# Altium integrated library TI_Logic_Little_Logic.IntLib: 1164 symbols (part 4 of 35)
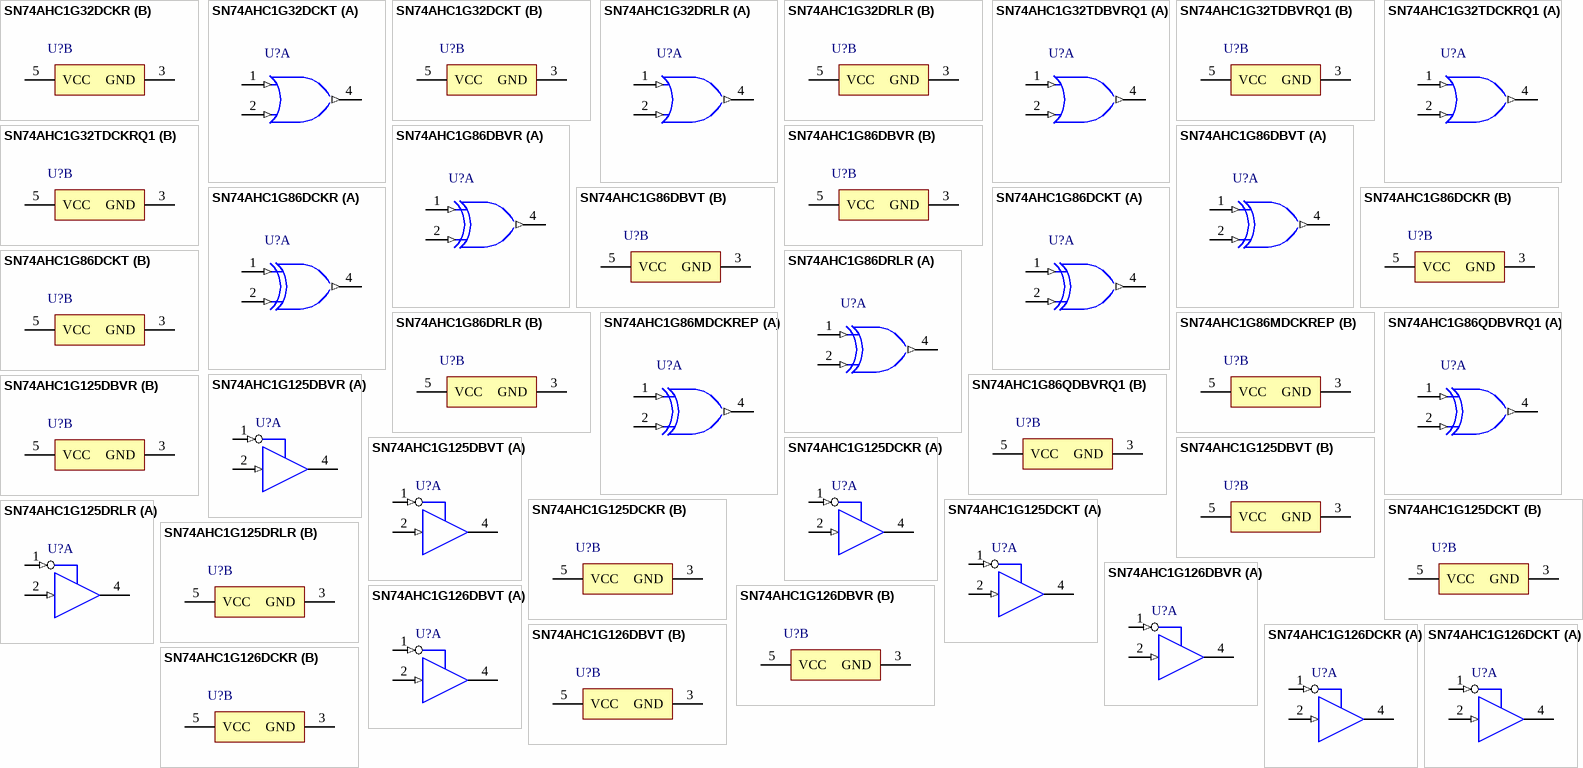
[diagram p63: symbols SN74AHC1G32DCKR to SN74AHC1G126DCKT]

## SN74AHC1G126DBVR
designator U?
Single Bus Buffer Gate With 3-State Outputs, DBV0005A, LARGE T&R; Generic Part Number: SN74AHC1G126; Manufacturer: Texas Instruments; PartNumber: SN74AHC1G126DBVR; VCC(Min)(V): 2; VCC(Max)(V): 5.5; Output Type: CMOS; ICC @ Nom Voltage(Max)(mA): 0.01; Bits(#): 1; F @ Nom Voltage(Max)(Mhz): 75; Rating: Catalog; Technology Family: AHC; Voltage(Nom)(V): 3.3,5; Schmitt Trigger: No; Output Drive (IOL/IOH)(Max)(mA): 50/-50; tpd @ Nom Voltage(Max)(ns): 11.5,7.5; Logic: True; Sub-Family: Non-Inverting Buffer/Driver; 3-State Output: Yes; DatasheetVersion: SCLS379K; PackageReference: DBV0005A; Supplier 1: Mouser; Supplier Part Number 1: 595-SN74AHC1G126DBVR; Supplier 2: Digi-Key; Supplier Part Number 2: 296-8746-2-ND; Supplier 3: Digi-Key; Supplier Part Number 3: 296-8746-1-ND; Supplier 4: Digi-Key; Supplier Part Number 4: 296-8746-6-ND; Input Type: CMOS; Operating Temperature Range(C): -40 to 125,-40 to 85; ComponentLink1Description: Manufacturer URL; ComponentLink1URL: http://www.ti.com/; ComponentLink2Description: Datasheet; ComponentLink2URL: http://www.ti.com/lit/ds/symlink/sn74ahc1g126.pdf
footprint DBV0005A_N (SOT23, 5-Leads, Body 3.05x1.75mm, Pitch 0.95mm, IPC Medium Density)
footprint DBV0005A_M (SOT23, 5-Leads, Body 3.05x1.75mm, Pitch 0.95mm, IPC Low Density)
footprint DBV0005A_L (SOT23, 5-Leads, Body 3.05x1.75mm, Pitch 0.95mm, IPC High Density)
part A pins: 1 OE (in), 2 A (in), 4 Y (hiz)
part B pins: 3 GND (power), 5 VCC (power)

## SN74AHC1G126DBVT
designator U?
Single Bus Buffer Gate With 3-State Outputs, DBV0005A, SMALL T&R; Generic Part Number: SN74AHC1G126; Manufacturer: Texas Instruments; PartNumber: SN74AHC1G126DBVT; VCC(Min)(V): 2; VCC(Max)(V): 5.5; Output Type: CMOS; ICC @ Nom Voltage(Max)(mA): 0.01; Bits(#): 1; F @ Nom Voltage(Max)(Mhz): 75; Rating: Catalog; Technology Family: AHC; Voltage(Nom)(V): 3.3,5; Schmitt Trigger: No; Output Drive (IOL/IOH)(Max)(mA): 50/-50; tpd @ Nom Voltage(Max)(ns): 11.5,7.5; Logic: True; Sub-Family: Non-Inverting Buffer/Driver; 3-State Output: Yes; DatasheetVersion: SCLS379K; PackageReference: DBV0005A; Supplier 1: Mouser; Supplier Part Number 1: 595-SN74AHC1G126DBVT; Supplier 2: Digi-Key; Supplier Part Number 2: 296-32230-2-ND; Supplier 3: Digi-Key; Supplier Part Number 3: 296-32230-1-ND; Supplier 4: Digi-Key; Supplier Part Number 4: 296-32230-6-ND; Input Type: CMOS; Operating Temperature Range(C): -40 to 125,-40 to 85; ComponentLink1Description: Manufacturer URL; ComponentLink1URL: http://www.ti.com/; ComponentLink2Description: Datasheet; ComponentLink2URL: http://www.ti.com/lit/ds/symlink/sn74ahc1g126.pdf
footprint DBV0005A_N (SOT23, 5-Leads, Body 3.05x1.75mm, Pitch 0.95mm, IPC Medium Density)
footprint DBV0005A_M (SOT23, 5-Leads, Body 3.05x1.75mm, Pitch 0.95mm, IPC Low Density)
footprint DBV0005A_L (SOT23, 5-Leads, Body 3.05x1.75mm, Pitch 0.95mm, IPC High Density)
part A pins: 1 OE (in), 2 A (in), 4 Y (hiz)
part B pins: 3 GND (power), 5 VCC (power)

## SN74AHC1G126DCKR
designator U?
Single Bus Buffer Gate With 3-State Outputs, DCK0005A, LARGE T&R; Generic Part Number: SN74AHC1G126; Manufacturer: Texas Instruments; PartNumber: SN74AHC1G126DCKR; VCC(Min)(V): 2; VCC(Max)(V): 5.5; Output Type: CMOS; ICC @ Nom Voltage(Max)(mA): 0.01; Bits(#): 1; F @ Nom Voltage(Max)(Mhz): 75; Rating: Catalog; Technology Family: AHC; Voltage(Nom)(V): 3.3,5; Schmitt Trigger: No; Output Drive (IOL/IOH)(Max)(mA): 50/-50; tpd @ Nom Voltage(Max)(ns): 11.5,7.5; Logic: True; Sub-Family: Non-Inverting Buffer/Driver; 3-State Output: Yes; DatasheetVersion: SCLS379K; PackageReference: DCK0005A; Supplier 1: Mouser; Supplier Part Number 1: 595-SN74AHC1G126DCKR; Supplier 2: Digi-Key; Supplier Part Number 2: 296-8747-2-ND; Supplier 3: Digi-Key; Supplier Part Number 3: 296-8747-1-ND; Supplier 4: Digi-Key; Supplier Part Number 4: 296-8747-6-ND; Input Type: CMOS; Operating Temperature Range(C): -40 to 125,-40 to 85; ComponentLink1Description: Manufacturer URL; ComponentLink1URL: http://www.ti.com/; ComponentLink2Description: Datasheet; ComponentLink2URL: http://www.ti.com/lit/ds/symlink/sn74ahc1g126.pdf
footprint DCK0005A_N (SOT23, 5-Leads, Body 2.15x1.4mm, Pitch 0.65mm, IPC Medium Density)
footprint DCK0005A_M (SOT23, 5-Leads, Body 2.15x1.4mm, Pitch 0.65mm, IPC Low Density)
footprint DCK0005A_L (SOT23, 5-Leads, Body 2.15x1.4mm, Pitch 0.65mm, IPC High Density)
part A pins: 1 OE (in), 2 A (in), 4 Y (hiz)
part B pins: 3 GND (power), 5 VCC (power)

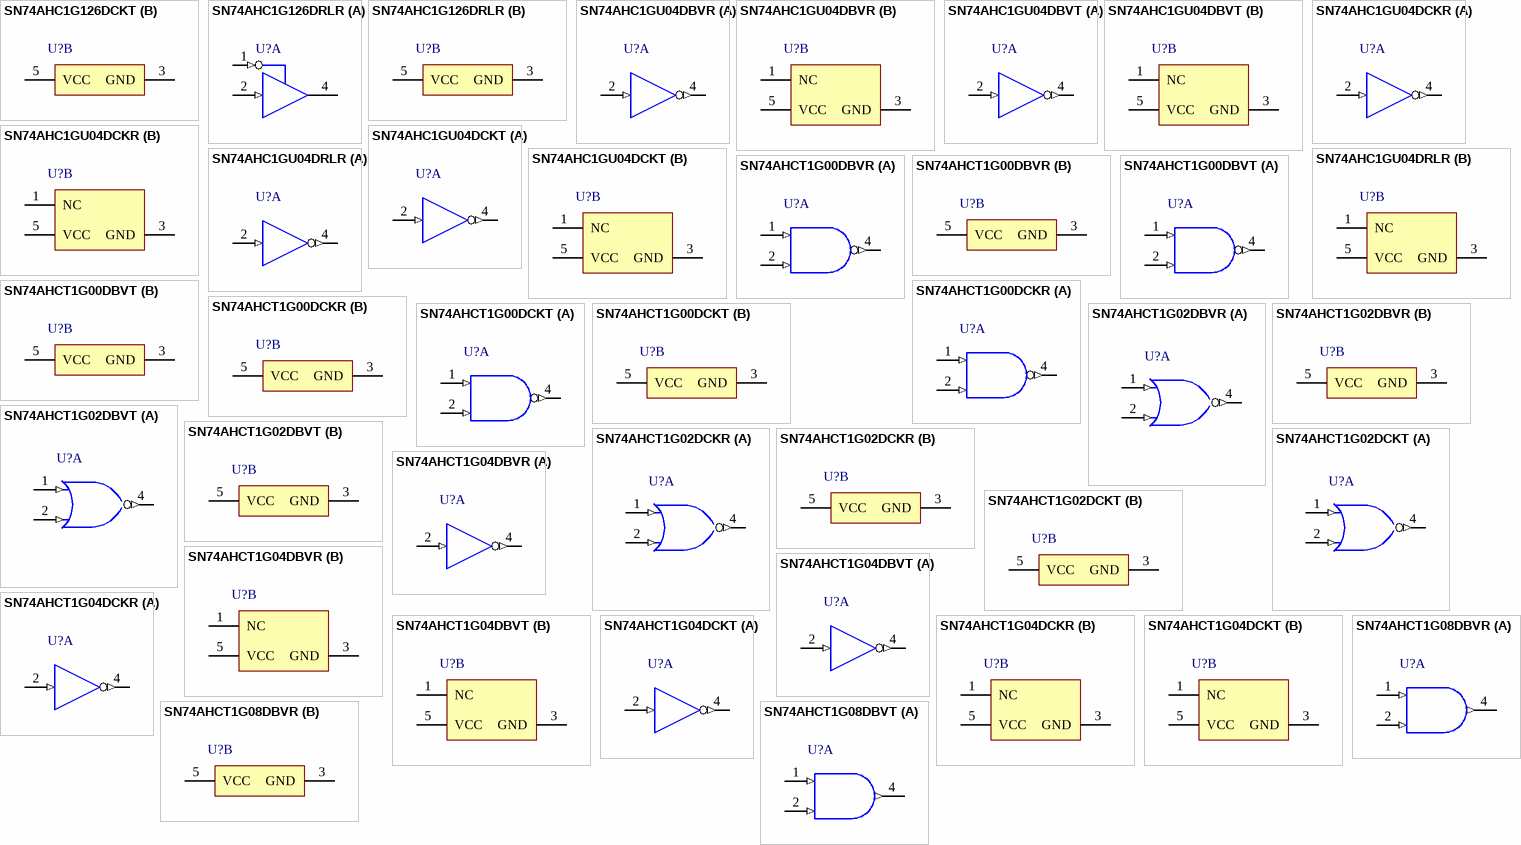
[diagram p5: symbols SN74AHC1G126DCKT to SN74AHCT1G08DBVT]

## SN74AHC1G126DCKT
designator U?
Single Bus Buffer Gate With 3-State Outputs, DCK0005A, SMALL T&R; Generic Part Number: SN74AHC1G126; Manufacturer: Texas Instruments; PartNumber: SN74AHC1G126DCKT; VCC(Min)(V): 2; VCC(Max)(V): 5.5; Output Type: CMOS; ICC @ Nom Voltage(Max)(mA): 0.01; Bits(#): 1; F @ Nom Voltage(Max)(Mhz): 75; Rating: Catalog; Technology Family: AHC; Voltage(Nom)(V): 3.3,5; Schmitt Trigger: No; Output Drive (IOL/IOH)(Max)(mA): 50/-50; tpd @ Nom Voltage(Max)(ns): 11.5,7.5; Logic: True; Sub-Family: Non-Inverting Buffer/Driver; 3-State Output: Yes; DatasheetVersion: SCLS379K; PackageReference: DCK0005A; Supplier 1: Mouser; Supplier Part Number 1: 595-SN74AHC1G126DCKT; Supplier 2: Digi-Key; Supplier Part Number 2: SN74AHC1G126DCKT-ND; Input Type: CMOS; Operating Temperature Range(C): -40 to 125,-40 to 85; ComponentLink1Description: Manufacturer URL; ComponentLink1URL: http://www.ti.com/; ComponentLink2Description: Datasheet; ComponentLink2URL: http://www.ti.com/lit/ds/symlink/sn74ahc1g126.pdf
footprint DCK0005A_N (SOT23, 5-Leads, Body 2.15x1.4mm, Pitch 0.65mm, IPC Medium Density)
footprint DCK0005A_M (SOT23, 5-Leads, Body 2.15x1.4mm, Pitch 0.65mm, IPC Low Density)
footprint DCK0005A_L (SOT23, 5-Leads, Body 2.15x1.4mm, Pitch 0.65mm, IPC High Density)
part A pins: 1 OE (in), 2 A (in), 4 Y (hiz)
part B pins: 3 GND (power), 5 VCC (power)

## SN74AHC1G126DRLR
designator U?
Single Bus Buffer Gate With 3-State Outputs, DRL0005A, LARGE T&R; Generic Part Number: SN74AHC1G126; Manufacturer: Texas Instruments; PartNumber: SN74AHC1G126DRLR; VCC(Min)(V): 2; VCC(Max)(V): 5.5; Output Type: CMOS; ICC @ Nom Voltage(Max)(mA): 0.01; Bits(#): 1; F @ Nom Voltage(Max)(Mhz): 75; Rating: Catalog; Technology Family: AHC; Voltage(Nom)(V): 3.3,5; Schmitt Trigger: No; Output Drive (IOL/IOH)(Max)(mA): 50/-50; tpd @ Nom Voltage(Max)(ns): 11.5,7.5; Logic: True; Sub-Family: Non-Inverting Buffer/Driver; 3-State Output: Yes; DatasheetVersion: SCLS379K; PackageReference: DRL0005A; Supplier 1: Mouser; Supplier Part Number 1: 595-SN74AHC1G126DRLR; Supplier 2: Digi-Key; Supplier Part Number 2: 296-19377-2-ND; Supplier 3: Digi-Key; Supplier Part Number 3: 296-19377-1-ND; Supplier 4: Digi-Key; Supplier Part Number 4: 296-19377-6-ND; Input Type: CMOS; Operating Temperature Range(C): -40 to 125,-40 to 85; ComponentLink1Description: Manufacturer URL; ComponentLink1URL: http://www.ti.com/; ComponentLink2Description: Datasheet; ComponentLink2URL: http://www.ti.com/lit/ds/symlink/sn74ahc1g126.pdf
footprint DRL0005A_N (SOT23, 5-Leads, Body 1.7x1.3mm, Pitch 0.5mm, IPC Medium Density)
footprint DRL0005A_M (SOT23, 5-Leads, Body 1.7x1.3mm, Pitch 0.5mm, IPC Low Density)
footprint DRL0005A_L (SOT23, 5-Leads, Body 1.7x1.3mm, Pitch 0.5mm, IPC High Density)
part A pins: 1 OE (in), 2 A (in), 4 Y (hiz)
part B pins: 3 GND (power), 5 VCC (power)

## SN74AHC1GU04DBVR
designator U?
Single Inverter, DBV0005A, LARGE T&R; Generic Part Number: SN74AHC1GU04; Manufacturer: Texas Instruments; PartNumber: SN74AHC1GU04DBVR; VCC(Min)(V): 2; VCC(Max)(V): 5.5; Output Type: CMOS; ICC @ Nom Voltage(Max)(mA): 0.01; Bits(#): 1; F @ Nom Voltage(Max)(Mhz): 75; Rating: Catalog; Technology Family: AHC; Voltage(Nom)(V): 3.3,5; Schmitt Trigger: No; Output Drive (IOL/IOH)(Max)(mA): 50/-50; tpd @ Nom Voltage(Max)(ns): 10.6,7; Logic: Inverting; Sub-Family: Inverting Buffer/Driver; DatasheetVersion: SCLS343R; PackageReference: DBV0005A; Supplier 1: Mouser; Supplier Part Number 1: 595-SN74AHC1GU04DBVR; Supplier 2: Digi-Key; Supplier Part Number 2: 296-1095-2-ND; Supplier 3: Digi-Key; Supplier Part Number 3: 296-1095-1-ND; Supplier 4: Digi-Key; Supplier Part Number 4: 296-1095-6-ND; Input Type: CMOS; Operating Temperature Range(C): -40 to 125; 3-State Output: No; ComponentLink1Description: Manufacturer URL; ComponentLink1URL: http://www.ti.com/; ComponentLink2Description: Datasheet; ComponentLink2URL: http://www.ti.com/lit/ds/symlink/sn74ahc1gu04.pdf
footprint DBV0005A_N (SOT23, 5-Leads, Body 3.05x1.75mm, Pitch 0.95mm, IPC Medium Density)
footprint DBV0005A_M (SOT23, 5-Leads, Body 3.05x1.75mm, Pitch 0.95mm, IPC Low Density)
footprint DBV0005A_L (SOT23, 5-Leads, Body 3.05x1.75mm, Pitch 0.95mm, IPC High Density)
part A pins: 2 A (in) "Input A", 4 Y (out) "Output Y"
part B pins: 1 NC "Ground", 3 GND (power) "Ground Pin", 5 VCC (power) "Power Pin"

## SN74AHC1GU04DBVT
designator U?
Single Inverter, DBV0005A, SMALL T&R; Generic Part Number: SN74AHC1GU04; Manufacturer: Texas Instruments; PartNumber: SN74AHC1GU04DBVT; VCC(Min)(V): 2; VCC(Max)(V): 5.5; Output Type: CMOS; ICC @ Nom Voltage(Max)(mA): 0.01; Bits(#): 1; F @ Nom Voltage(Max)(Mhz): 75; Rating: Catalog; Technology Family: AHC; Voltage(Nom)(V): 3.3,5; Schmitt Trigger: No; Output Drive (IOL/IOH)(Max)(mA): 50/-50; tpd @ Nom Voltage(Max)(ns): 10.6,7; Logic: Inverting; Sub-Family: Inverting Buffer/Driver; DatasheetVersion: SCLS343R; PackageReference: DBV0005A; Supplier 1: Mouser; Supplier Part Number 1: 595-SN74AHC1GU04DBVT; Supplier 2: Digi-Key; Supplier Part Number 2: 296-32236-2-ND; Supplier 3: Digi-Key; Supplier Part Number 3: 296-32236-1-ND; Supplier 4: Digi-Key; Supplier Part Number 4: 296-32236-6-ND; Input Type: CMOS; Operating Temperature Range(C): -40 to 125; 3-State Output: No; ComponentLink1Description: Manufacturer URL; ComponentLink1URL: http://www.ti.com/; ComponentLink2Description: Datasheet; ComponentLink2URL: http://www.ti.com/lit/ds/symlink/sn74ahc1gu04.pdf
footprint DBV0005A_N (SOT23, 5-Leads, Body 3.05x1.75mm, Pitch 0.95mm, IPC Medium Density)
footprint DBV0005A_M (SOT23, 5-Leads, Body 3.05x1.75mm, Pitch 0.95mm, IPC Low Density)
footprint DBV0005A_L (SOT23, 5-Leads, Body 3.05x1.75mm, Pitch 0.95mm, IPC High Density)
part A pins: 2 A (in) "Input A", 4 Y (out) "Output Y"
part B pins: 1 NC "Ground", 3 GND (power) "Ground Pin", 5 VCC (power) "Power Pin"

## SN74AHC1GU04DCKR
designator U?
Single Inverter, DCK0005A, LARGE T&R; Generic Part Number: SN74AHC1GU04; Manufacturer: Texas Instruments; PartNumber: SN74AHC1GU04DCKR; VCC(Min)(V): 2; VCC(Max)(V): 5.5; Output Type: CMOS; ICC @ Nom Voltage(Max)(mA): 0.01; Bits(#): 1; F @ Nom Voltage(Max)(Mhz): 75; Rating: Catalog; Technology Family: AHC; Voltage(Nom)(V): 3.3,5; Schmitt Trigger: No; Output Drive (IOL/IOH)(Max)(mA): 50/-50; tpd @ Nom Voltage(Max)(ns): 10.6,7; Logic: Inverting; Sub-Family: Inverting Buffer/Driver; DatasheetVersion: SCLS343R; PackageReference: DCK0005A; Supplier 1: Mouser; Supplier Part Number 1: 595-SN74AHC1GU04DCKR; Supplier 2: Digi-Key; Supplier Part Number 2: 296-8751-2-ND; Supplier 3: Digi-Key; Supplier Part Number 3: 296-8751-1-ND; Supplier 4: Digi-Key; Supplier Part Number 4: 296-8751-6-ND; Input Type: CMOS; Operating Temperature Range(C): -40 to 125; 3-State Output: No; ComponentLink1Description: Manufacturer URL; ComponentLink1URL: http://www.ti.com/; ComponentLink2Description: Datasheet; ComponentLink2URL: http://www.ti.com/lit/ds/symlink/sn74ahc1gu04.pdf
footprint DCK0005A_N (SOT23, 5-Leads, Body 2.15x1.4mm, Pitch 0.65mm, IPC Medium Density)
footprint DCK0005A_M (SOT23, 5-Leads, Body 2.15x1.4mm, Pitch 0.65mm, IPC Low Density)
footprint DCK0005A_L (SOT23, 5-Leads, Body 2.15x1.4mm, Pitch 0.65mm, IPC High Density)
part A pins: 2 A (in), 4 Y (out)
part B pins: 1 NC, 3 GND (power), 5 VCC (power)

## SN74AHC1GU04DCKT
designator U?
Single Inverter, DCK0005A, SMALL T&R; Generic Part Number: SN74AHC1GU04; Manufacturer: Texas Instruments; PartNumber: SN74AHC1GU04DCKT; VCC(Min)(V): 2; VCC(Max)(V): 5.5; Output Type: CMOS; ICC @ Nom Voltage(Max)(mA): 0.01; Bits(#): 1; F @ Nom Voltage(Max)(Mhz): 75; Rating: Catalog; Technology Family: AHC; Voltage(Nom)(V): 3.3,5; Schmitt Trigger: No; Output Drive (IOL/IOH)(Max)(mA): 50/-50; tpd @ Nom Voltage(Max)(ns): 10.6,7; Logic: Inverting; Sub-Family: Inverting Buffer/Driver; DatasheetVersion: SCLS343R; PackageReference: DCK0005A; Supplier 1: Mouser; Supplier Part Number 1: 595-SN74AHC1GU04DCKT; Supplier 2: Digi-Key; Supplier Part Number 2: 296-32237-2-ND; Supplier 3: Digi-Key; Supplier Part Number 3: 296-32237-1-ND; Supplier 4: Digi-Key; Supplier Part Number 4: 296-32237-6-ND; Input Type: CMOS; Operating Temperature Range(C): -40 to 125; 3-State Output: No; ComponentLink1Description: Manufacturer URL; ComponentLink1URL: http://www.ti.com/; ComponentLink2Description: Datasheet; ComponentLink2URL: http://www.ti.com/lit/ds/symlink/sn74ahc1gu04.pdf
footprint DCK0005A_N (SOT23, 5-Leads, Body 2.15x1.4mm, Pitch 0.65mm, IPC Medium Density)
footprint DCK0005A_M (SOT23, 5-Leads, Body 2.15x1.4mm, Pitch 0.65mm, IPC Low Density)
footprint DCK0005A_L (SOT23, 5-Leads, Body 2.15x1.4mm, Pitch 0.65mm, IPC High Density)
part A pins: 2 A (in), 4 Y (out)
part B pins: 1 NC, 3 GND (power), 5 VCC (power)

## SN74AHC1GU04DRLR
designator U?
Single Inverter, DRL0005A, LARGE T&R; Generic Part Number: SN74AHC1GU04; Manufacturer: Texas Instruments; PartNumber: SN74AHC1GU04DRLR; VCC(Min)(V): 2; VCC(Max)(V): 5.5; Output Type: CMOS; ICC @ Nom Voltage(Max)(mA): 0.01; Bits(#): 1; F @ Nom Voltage(Max)(Mhz): 75; Rating: Catalog; Technology Family: AHC; Voltage(Nom)(V): 3.3,5; Schmitt Trigger: No; Output Drive (IOL/IOH)(Max)(mA): 50/-50; tpd @ Nom Voltage(Max)(ns): 10.6,7; Logic: Inverting; Sub-Family: Inverting Buffer/Driver; DatasheetVersion: SCLS343R; PackageReference: DRL0005A; Supplier 1: Mouser; Supplier Part Number 1: 595-SN74AHC1GU04DRLR; Supplier 2: Digi-Key; Supplier Part Number 2: 296-23234-2-ND; Supplier 3: Digi-Key; Supplier Part Number 3: 296-23234-1-ND; Supplier 4: Digi-Key; Supplier Part Number 4: 296-23234-6-ND; Input Type: CMOS; Operating Temperature Range(C): -40 to 125; 3-State Output: No; ComponentLink1Description: Manufacturer URL; ComponentLink1URL: http://www.ti.com/; ComponentLink2Description: Datasheet; ComponentLink2URL: http://www.ti.com/lit/ds/symlink/sn74ahc1gu04.pdf
footprint DRL0005A_N (SOT23, 5-Leads, Body 1.7x1.3mm, Pitch 0.5mm, IPC Medium Density)
footprint DRL0005A_M (SOT23, 5-Leads, Body 1.7x1.3mm, Pitch 0.5mm, IPC Low Density)
footprint DRL0005A_L (SOT23, 5-Leads, Body 1.7x1.3mm, Pitch 0.5mm, IPC High Density)
part A pins: 2 A (in) "Input A", 4 Y (out) "Output Y"
part B pins: 1 NC "Ground", 3 GND (power) "Ground Pin", 5 VCC (power) "Power Pin"

## SN74AHCT1G00DBVR
designator U?
Single 2-Input Positive-NAND Gate, DBV0005A, LARGE T&R; Generic Part Number: SN74AHCT1G00; Manufacturer: Texas Instruments; PartNumber: SN74AHCT1G00DBVR; VCC(Min)(V): 2; VCC(Max)(V): 5.5; Output Type: CMOS; ICC @ Nom Voltage(Max)(mA): 0.01; Bits(#): 1; F @ Nom Voltage(Max)(Mhz): 75; Rating: Catalog; Technology Family: AHCT; Voltage(Nom)(V): 3.3,5; Schmitt Trigger: No; Output Drive (IOL/IOH)(Max)(mA): 50/-50; tpd @ Nom Voltage(Max)(ns): 11.4,7.5; Logic: True; Gate Type: NAND; DatasheetVersion: SCLS316N; PackageReference: DBV0005A; Supplier 1: Mouser; Supplier Part Number 1: 595-SN74AHCT1G00DBVR; Supplier 2: Digi-Key; Supplier Part Number 2: 296-1111-2-ND; Supplier 3: Digi-Key; Supplier Part Number 3: 296-1111-1-ND; Supplier 4: Digi-Key; Supplier Part Number 4: 296-1111-6-ND; Input Type: CMOS; Operating Temperature Range(C): -40 to 125; Sub-Family: NAND Gate; 3-State Output: No; ComponentLink1Description: Manufacturer URL; ComponentLink1URL: http://www.ti.com/; ComponentLink2Description: Datasheet; ComponentLink2URL: http://www.ti.com/lit/ds/symlink/sn74ahct1g00.pdf
footprint DBV0005A_N (SOT23, 5-Leads, Body 3.05x1.75mm, Pitch 0.95mm, IPC Medium Density)
footprint DBV0005A_M (SOT23, 5-Leads, Body 3.05x1.75mm, Pitch 0.95mm, IPC Low Density)
footprint DBV0005A_L (SOT23, 5-Leads, Body 3.05x1.75mm, Pitch 0.95mm, IPC High Density)
part A pins: 1 A (in) "Input A", 2 B (in) "Input B", 4 Y (out) "Output Y"
part B pins: 3 GND (power) "Ground Pin", 5 VCC (power) "Power Pin"

## SN74AHCT1G00DBVT
designator U?
Single 2-Input Positive-NAND Gate, DBV0005A, SMALL T&R; Generic Part Number: SN74AHCT1G00; Manufacturer: Texas Instruments; PartNumber: SN74AHCT1G00DBVT; VCC(Min)(V): 2; VCC(Max)(V): 5.5; Output Type: CMOS; ICC @ Nom Voltage(Max)(mA): 0.01; Bits(#): 1; F @ Nom Voltage(Max)(Mhz): 75; Rating: Catalog; Technology Family: AHCT; Voltage(Nom)(V): 3.3,5; Schmitt Trigger: No; Output Drive (IOL/IOH)(Max)(mA): 50/-50; tpd @ Nom Voltage(Max)(ns): 11.4,7.5; Logic: True; Gate Type: NAND; DatasheetVersion: SCLS316N; PackageReference: DBV0005A; Supplier 1: Mouser; Supplier Part Number 1: 595-SN74AHCT1G00DBVT; Supplier 2: Digi-Key; Supplier Part Number 2: 296-41487-2-ND; Supplier 3: Digi-Key; Supplier Part Number 3: 296-41487-1-ND; Supplier 4: Digi-Key; Supplier Part Number 4: 296-41487-6-ND; Input Type: CMOS; Operating Temperature Range(C): -40 to 125; Sub-Family: NAND Gate; 3-State Output: No; ComponentLink1Description: Manufacturer URL; ComponentLink1URL: http://www.ti.com/; ComponentLink2Description: Datasheet; ComponentLink2URL: http://www.ti.com/lit/ds/symlink/sn74ahct1g00.pdf
footprint DBV0005A_N (SOT23, 5-Leads, Body 3.05x1.75mm, Pitch 0.95mm, IPC Medium Density)
footprint DBV0005A_M (SOT23, 5-Leads, Body 3.05x1.75mm, Pitch 0.95mm, IPC Low Density)
footprint DBV0005A_L (SOT23, 5-Leads, Body 3.05x1.75mm, Pitch 0.95mm, IPC High Density)
part A pins: 1 A (in) "Input A", 2 B (in) "Input B", 4 Y (out) "Output Y"
part B pins: 3 GND (power) "Ground Pin", 5 VCC (power) "Power Pin"

## SN74AHCT1G00DCKR
designator U?
Single 2-Input Positive-NAND Gate, DCK0005A, LARGE T&R; Generic Part Number: SN74AHCT1G00; Manufacturer: Texas Instruments; PartNumber: SN74AHCT1G00DCKR; VCC(Min)(V): 2; VCC(Max)(V): 5.5; Output Type: CMOS; ICC @ Nom Voltage(Max)(mA): 0.01; Bits(#): 1; F @ Nom Voltage(Max)(Mhz): 75; Rating: Catalog; Technology Family: AHCT; Voltage(Nom)(V): 3.3,5; Schmitt Trigger: No; Output Drive (IOL/IOH)(Max)(mA): 50/-50; tpd @ Nom Voltage(Max)(ns): 11.4,7.5; Logic: True; Gate Type: NAND; DatasheetVersion: SCLS316N; PackageReference: DCK0005A; Supplier 1: Mouser; Supplier Part Number 1: 595-SN74AHCT1G00DCKR; Supplier 2: Digi-Key; Supplier Part Number 2: 296-4703-2-ND; Supplier 3: Digi-Key; Supplier Part Number 3: 296-4703-1-ND; Supplier 4: Digi-Key; Supplier Part Number 4: 296-4703-6-ND; Input Type: CMOS; Operating Temperature Range(C): -40 to 125; Sub-Family: NAND Gate; 3-State Output: No; ComponentLink1Description: Manufacturer URL; ComponentLink1URL: http://www.ti.com/; ComponentLink2Description: Datasheet; ComponentLink2URL: http://www.ti.com/lit/ds/symlink/sn74ahct1g00.pdf
footprint DCK0005A_N (SOT23, 5-Leads, Body 2.15x1.4mm, Pitch 0.65mm, IPC Medium Density)
footprint DCK0005A_M (SOT23, 5-Leads, Body 2.15x1.4mm, Pitch 0.65mm, IPC Low Density)
footprint DCK0005A_L (SOT23, 5-Leads, Body 2.15x1.4mm, Pitch 0.65mm, IPC High Density)
part A pins: 1 A (in) "Input A", 2 B (in) "Input B", 4 Y (out) "Output Y"
part B pins: 3 GND (power) "Ground Pin", 5 VCC (power) "Power Pin"

## SN74AHCT1G00DCKT
designator U?
Single 2-Input Positive-NAND Gate, DCK0005A, SMALL T&R; Generic Part Number: SN74AHCT1G00; Manufacturer: Texas Instruments; PartNumber: SN74AHCT1G00DCKT; VCC(Min)(V): 2; VCC(Max)(V): 5.5; Output Type: CMOS; ICC @ Nom Voltage(Max)(mA): 0.01; Bits(#): 1; F @ Nom Voltage(Max)(Mhz): 75; Rating: Catalog; Technology Family: AHCT; Voltage(Nom)(V): 3.3,5; Schmitt Trigger: No; Output Drive (IOL/IOH)(Max)(mA): 50/-50; tpd @ Nom Voltage(Max)(ns): 11.4,7.5; Logic: True; Gate Type: NAND; DatasheetVersion: SCLS316N; PackageReference: DCK0005A; Supplier 1: Mouser; Supplier Part Number 1: 595-SN74AHCT1G00DCKT; Supplier 2: Digi-Key; Supplier Part Number 2: SN74AHCT1G00DCKT-ND; Input Type: CMOS; Operating Temperature Range(C): -40 to 125; Sub-Family: NAND Gate; 3-State Output: No; ComponentLink1Description: Manufacturer URL; ComponentLink1URL: http://www.ti.com/; ComponentLink2Description: Datasheet; ComponentLink2URL: http://www.ti.com/lit/ds/symlink/sn74ahct1g00.pdf
footprint DCK0005A_N (SOT23, 5-Leads, Body 2.15x1.4mm, Pitch 0.65mm, IPC Medium Density)
footprint DCK0005A_M (SOT23, 5-Leads, Body 2.15x1.4mm, Pitch 0.65mm, IPC Low Density)
footprint DCK0005A_L (SOT23, 5-Leads, Body 2.15x1.4mm, Pitch 0.65mm, IPC High Density)
part A pins: 1 A (in) "Input A", 2 B (in) "Input B", 4 Y (out) "Output Y"
part B pins: 3 GND (power) "Ground Pin", 5 VCC (power) "Power Pin"

## SN74AHCT1G02DBVR
designator U?
Single 2-Input Positive-NOR Gate, DBV0005A, LARGE T&R; Generic Part Number: SN74AHCT1G02; Manufacturer: Texas Instruments; PartNumber: SN74AHCT1G02DBVR; VCC(Min)(V): 2; VCC(Max)(V): 5.5; Output Type: CMOS; ICC @ Nom Voltage(Max)(mA): 0.01; Bits(#): 1; F @ Nom Voltage(Max)(Mhz): 75; Rating: Catalog; Technology Family: AHCT; Voltage(Nom)(V): 5; Schmitt Trigger: No; Output Drive (IOL/IOH)(Max)(mA): 8/-8; tpd @ Nom Voltage(Max)(ns): 6.5; Logic: True; Gate Type: NOR; DatasheetVersion: SCLS341K; PackageReference: DBV0005A; Supplier 1: Mouser; Supplier Part Number 1: 595-SN74AHCT1G02DBVR; Supplier 2: Digi-Key; Supplier Part Number 2: 296-4704-2-ND; Supplier 3: Digi-Key; Supplier Part Number 3: 296-4704-1-ND; Supplier 4: Digi-Key; Supplier Part Number 4: 296-4704-6-ND; Input Type: CMOS; Operating Temperature Range(C): -40 to 85; Sub-Family: NOR Gate; 3-State Output: No; ComponentLink1Description: Manufacturer URL; ComponentLink1URL: http://www.ti.com/; ComponentLink2Description: Datasheet; ComponentLink2URL: http://www.ti.com/lit/ds/symlink/sn74ahct1g02.pdf
footprint DBV0005A_N (SOT23, 5-Leads, Body 3.05x1.75mm, Pitch 0.95mm, IPC Medium Density)
footprint DBV0005A_M (SOT23, 5-Leads, Body 3.05x1.75mm, Pitch 0.95mm, IPC Low Density)
footprint DBV0005A_L (SOT23, 5-Leads, Body 3.05x1.75mm, Pitch 0.95mm, IPC High Density)
part A pins: 1 A (in) "Input A", 2 B (in) "Input B", 4 Y (out) "Output Y"
part B pins: 3 GND (power) "Ground Pin", 5 VCC (power) "Power Pin"

## SN74AHCT1G02DBVT
designator U?
Single 2-Input Positive-NOR Gate, DBV0005A, SMALL T&R; Generic Part Number: SN74AHCT1G02; Manufacturer: Texas Instruments; PartNumber: SN74AHCT1G02DBVT; VCC(Min)(V): 2; VCC(Max)(V): 5.5; Output Type: CMOS; ICC @ Nom Voltage(Max)(mA): 0.01; Bits(#): 1; F @ Nom Voltage(Max)(Mhz): 75; Rating: Catalog; Technology Family: AHCT; Voltage(Nom)(V): 5; Schmitt Trigger: No; Output Drive (IOL/IOH)(Max)(mA): 8/-8; tpd @ Nom Voltage(Max)(ns): 6.5; Logic: True; Gate Type: NOR; DatasheetVersion: SCLS341K; PackageReference: DBV0005A; Supplier 1: Mouser; Supplier Part Number 1: 595-SN74AHCT1G02DBVT; Supplier 2: Digi-Key; Supplier Part Number 2: 296-32239-2-ND; Supplier 3: Digi-Key; Supplier Part Number 3: 296-32239-1-ND; Supplier 4: Digi-Key; Supplier Part Number 4: 296-32239-6-ND; Input Type: CMOS; Operating Temperature Range(C): -40 to 85; Sub-Family: NOR Gate; 3-State Output: No; ComponentLink1Description: Manufacturer URL; ComponentLink1URL: http://www.ti.com/; ComponentLink2Description: Datasheet; ComponentLink2URL: http://www.ti.com/lit/ds/symlink/sn74ahct1g02.pdf
footprint DBV0005A_N (SOT23, 5-Leads, Body 3.05x1.75mm, Pitch 0.95mm, IPC Medium Density)
footprint DBV0005A_M (SOT23, 5-Leads, Body 3.05x1.75mm, Pitch 0.95mm, IPC Low Density)
footprint DBV0005A_L (SOT23, 5-Leads, Body 3.05x1.75mm, Pitch 0.95mm, IPC High Density)
part A pins: 1 A (in) "Input A", 2 B (in) "Input B", 4 Y (out) "Output Y"
part B pins: 3 GND (power) "Ground Pin", 5 VCC (power) "Power Pin"

## SN74AHCT1G02DCKR
designator U?
Single 2-Input Positive-NOR Gate, DCK0005A, LARGE T&R; Generic Part Number: SN74AHCT1G02; Manufacturer: Texas Instruments; PartNumber: SN74AHCT1G02DCKR; VCC(Min)(V): 2; VCC(Max)(V): 5.5; Output Type: CMOS; ICC @ Nom Voltage(Max)(mA): 0.01; Bits(#): 1; F @ Nom Voltage(Max)(Mhz): 75; Rating: Catalog; Technology Family: AHCT; Voltage(Nom)(V): 5; Schmitt Trigger: No; Output Drive (IOL/IOH)(Max)(mA): 8/-8; tpd @ Nom Voltage(Max)(ns): 6.5; Logic: True; Gate Type: NOR; DatasheetVersion: SCLS341K; PackageReference: DCK0005A; Supplier 1: Mouser; Supplier Part Number 1: 595-SN74AHCT1G02DCKR; Supplier 2: Digi-Key; Supplier Part Number 2: 296-4705-2-ND; Supplier 3: Digi-Key; Supplier Part Number 3: 296-4705-1-ND; Supplier 4: Digi-Key; Supplier Part Number 4: 296-4705-6-ND; Input Type: CMOS; Operating Temperature Range(C): -40 to 85; Sub-Family: NOR Gate; 3-State Output: No; ComponentLink1Description: Manufacturer URL; ComponentLink1URL: http://www.ti.com/; ComponentLink2Description: Datasheet; ComponentLink2URL: http://www.ti.com/lit/ds/symlink/sn74ahct1g02.pdf
footprint DCK0005A_N (SOT23, 5-Leads, Body 2.15x1.4mm, Pitch 0.65mm, IPC Medium Density)
footprint DCK0005A_M (SOT23, 5-Leads, Body 2.15x1.4mm, Pitch 0.65mm, IPC Low Density)
footprint DCK0005A_L (SOT23, 5-Leads, Body 2.15x1.4mm, Pitch 0.65mm, IPC High Density)
part A pins: 1 A (in) "Input A", 2 B (in) "Input B", 4 Y (out) "Output Y"
part B pins: 3 GND (power) "Ground Pin", 5 VCC (power) "Power Pin"

## SN74AHCT1G02DCKT
designator U?
Single 2-Input Positive-NOR Gate, DCK0005A, SMALL T&R; Generic Part Number: SN74AHCT1G02; Manufacturer: Texas Instruments; PartNumber: SN74AHCT1G02DCKT; VCC(Min)(V): 2; VCC(Max)(V): 5.5; Output Type: CMOS; ICC @ Nom Voltage(Max)(mA): 0.01; Bits(#): 1; F @ Nom Voltage(Max)(Mhz): 75; Rating: Catalog; Technology Family: AHCT; Voltage(Nom)(V): 5; Schmitt Trigger: No; Output Drive (IOL/IOH)(Max)(mA): 8/-8; tpd @ Nom Voltage(Max)(ns): 6.5; Logic: True; Gate Type: NOR; DatasheetVersion: SCLS341K; PackageReference: DCK0005A; Supplier 1: Mouser; Supplier Part Number 1: 595-SN74AHCT1G02DCKT; Supplier 2: Digi-Key; Supplier Part Number 2: 296-32240-2-ND; Supplier 3: Digi-Key; Supplier Part Number 3: 296-32240-1-ND; Supplier 4: Digi-Key; Supplier Part Number 4: 296-32240-6-ND; Input Type: CMOS; Operating Temperature Range(C): -40 to 85; Sub-Family: NOR Gate; 3-State Output: No; ComponentLink1Description: Manufacturer URL; ComponentLink1URL: http://www.ti.com/; ComponentLink2Description: Datasheet; ComponentLink2URL: http://www.ti.com/lit/ds/symlink/sn74ahct1g02.pdf
footprint DCK0005A_N (SOT23, 5-Leads, Body 2.15x1.4mm, Pitch 0.65mm, IPC Medium Density)
footprint DCK0005A_M (SOT23, 5-Leads, Body 2.15x1.4mm, Pitch 0.65mm, IPC Low Density)
footprint DCK0005A_L (SOT23, 5-Leads, Body 2.15x1.4mm, Pitch 0.65mm, IPC High Density)
part A pins: 1 A (in) "Input A", 2 B (in) "Input B", 4 Y (out) "Output Y"
part B pins: 3 GND (power) "Ground Pin", 5 VCC (power) "Power Pin"

## SN74AHCT1G04DBVR
designator U?
Single Inverter Gate, DBV0005A, LARGE T&R; Generic Part Number: SN74AHCT1G04; Manufacturer: Texas Instruments; PartNumber: SN74AHCT1G04DBVR; VCC(Min)(V): 2; VCC(Max)(V): 5.5; Output Type: CMOS; ICC @ Nom Voltage(Max)(mA): 0.01; Bits(#): 1; F @ Nom Voltage(Max)(Mhz): 75; Rating: Catalog; Technology Family: AHCT; Voltage(Nom)(V): 5; Schmitt Trigger: No; Output Drive (IOL/IOH)(Max)(mA): 8/-8; tpd @ Nom Voltage(Max)(ns): 7.5; Logic: Inverting; Sub-Family: Inverting Buffer/Driver; DatasheetVersion: SCLS319P; PackageReference: DBV0005A; Supplier 1: Mouser; Supplier Part Number 1: 595-SN74AHCT1G04DBVR; Supplier 2: Digi-Key; Supplier Part Number 2: 296-1112-2-ND; Supplier 3: Digi-Key; Supplier Part Number 3: 296-1112-1-ND; Supplier 4: Digi-Key; Supplier Part Number 4: 296-1112-6-ND; Input Type: CMOS; Operating Temperature Range(C): -40 to 125; 3-State Output: No; ComponentLink1Description: Manufacturer URL; ComponentLink1URL: http://www.ti.com/; ComponentLink2Description: Datasheet; ComponentLink2URL: http://www.ti.com/lit/ds/symlink/sn74ahct1g04.pdf
footprint DBV0005A_N (SOT23, 5-Leads, Body 3.05x1.75mm, Pitch 0.95mm, IPC Medium Density)
footprint DBV0005A_M (SOT23, 5-Leads, Body 3.05x1.75mm, Pitch 0.95mm, IPC Low Density)
footprint DBV0005A_L (SOT23, 5-Leads, Body 3.05x1.75mm, Pitch 0.95mm, IPC High Density)
part A pins: 2 A (in) "Input A", 4 Y (out) "Output Y"
part B pins: 1 NC "Ground", 3 GND (power) "Ground Pin", 5 VCC (power) "Power Pin"

## SN74AHCT1G04DBVT
designator U?
Single Inverter Gate, DBV0005A, SMALL T&R; Generic Part Number: SN74AHCT1G04; Manufacturer: Texas Instruments; PartNumber: SN74AHCT1G04DBVT; VCC(Min)(V): 2; VCC(Max)(V): 5.5; Output Type: CMOS; ICC @ Nom Voltage(Max)(mA): 0.01; Bits(#): 1; F @ Nom Voltage(Max)(Mhz): 75; Rating: Catalog; Technology Family: AHCT; Voltage(Nom)(V): 5; Schmitt Trigger: No; Output Drive (IOL/IOH)(Max)(mA): 8/-8; tpd @ Nom Voltage(Max)(ns): 7.5; Logic: Inverting; Sub-Family: Inverting Buffer/Driver; DatasheetVersion: SCLS319P; PackageReference: DBV0005A; Supplier 1: Mouser; Supplier Part Number 1: 595-SN74AHCT1G04DBVT; Supplier 2: Digi-Key; Supplier Part Number 2: 296-26418-2-ND; Supplier 3: Digi-Key; Supplier Part Number 3: 296-26418-1-ND; Supplier 4: Digi-Key; Supplier Part Number 4: 296-26418-6-ND; Input Type: CMOS; Operating Temperature Range(C): -40 to 125; 3-State Output: No; ComponentLink1Description: Manufacturer URL; ComponentLink1URL: http://www.ti.com/; ComponentLink2Description: Datasheet; ComponentLink2URL: http://www.ti.com/lit/ds/symlink/sn74ahct1g04.pdf
footprint DBV0005A_N (SOT23, 5-Leads, Body 3.05x1.75mm, Pitch 0.95mm, IPC Medium Density)
footprint DBV0005A_M (SOT23, 5-Leads, Body 3.05x1.75mm, Pitch 0.95mm, IPC Low Density)
footprint DBV0005A_L (SOT23, 5-Leads, Body 3.05x1.75mm, Pitch 0.95mm, IPC High Density)
part A pins: 2 A (in) "Input A", 4 Y (out) "Output Y"
part B pins: 1 NC "Ground", 3 GND (power) "Ground Pin", 5 VCC (power) "Power Pin"

## SN74AHCT1G04DCKR
designator U?
Single Inverter Gate, DCK0005A, LARGE T&R; Generic Part Number: SN74AHCT1G04; Manufacturer: Texas Instruments; PartNumber: SN74AHCT1G04DCKR; VCC(Min)(V): 2; VCC(Max)(V): 5.5; Output Type: CMOS; ICC @ Nom Voltage(Max)(mA): 0.01; Bits(#): 1; F @ Nom Voltage(Max)(Mhz): 75; Rating: Catalog; Technology Family: AHCT; Voltage(Nom)(V): 5; Schmitt Trigger: No; Output Drive (IOL/IOH)(Max)(mA): 8/-8; tpd @ Nom Voltage(Max)(ns): 7.5; Logic: Inverting; Sub-Family: Inverting Buffer/Driver; DatasheetVersion: SCLS319P; PackageReference: DCK0005A; Supplier 1: Mouser; Supplier Part Number 1: 595-SN74AHCT1G04DCKR; Supplier 2: Digi-Key; Supplier Part Number 2: 296-4706-2-ND; Supplier 3: Digi-Key; Supplier Part Number 3: 296-4706-1-ND; Supplier 4: Digi-Key; Supplier Part Number 4: 296-4706-6-ND; Input Type: CMOS; Operating Temperature Range(C): -40 to 125; 3-State Output: No; ComponentLink1Description: Manufacturer URL; ComponentLink1URL: http://www.ti.com/; ComponentLink2Description: Datasheet; ComponentLink2URL: http://www.ti.com/lit/ds/symlink/sn74ahct1g04.pdf
footprint DCK0005A_N (SOT23, 5-Leads, Body 2.15x1.4mm, Pitch 0.65mm, IPC Medium Density)
footprint DCK0005A_M (SOT23, 5-Leads, Body 2.15x1.4mm, Pitch 0.65mm, IPC Low Density)
footprint DCK0005A_L (SOT23, 5-Leads, Body 2.15x1.4mm, Pitch 0.65mm, IPC High Density)
part A pins: 2 A (in) "Input A", 4 Y (out) "Output Y"
part B pins: 1 NC "Ground", 3 GND (power) "Ground Pin", 5 VCC (power) "Power Pin"

## SN74AHCT1G04DCKT
designator U?
Single Inverter Gate, DCK0005A, SMALL T&R; Generic Part Number: SN74AHCT1G04; Manufacturer: Texas Instruments; PartNumber: SN74AHCT1G04DCKT; VCC(Min)(V): 2; VCC(Max)(V): 5.5; Output Type: CMOS; ICC @ Nom Voltage(Max)(mA): 0.01; Bits(#): 1; F @ Nom Voltage(Max)(Mhz): 75; Rating: Catalog; Technology Family: AHCT; Voltage(Nom)(V): 5; Schmitt Trigger: No; Output Drive (IOL/IOH)(Max)(mA): 8/-8; tpd @ Nom Voltage(Max)(ns): 7.5; Logic: Inverting; Sub-Family: Inverting Buffer/Driver; DatasheetVersion: SCLS319P; PackageReference: DCK0005A; Supplier 1: Mouser; Supplier Part Number 1: 595-SN74AHCT1G04DCKT; Supplier 2: Digi-Key; Supplier Part Number 2: 296-41488-2-ND; Supplier 3: Digi-Key; Supplier Part Number 3: 296-41488-1-ND; Supplier 4: Digi-Key; Supplier Part Number 4: 296-41488-6-ND; Input Type: CMOS; Operating Temperature Range(C): -40 to 125; 3-State Output: No; ComponentLink1Description: Manufacturer URL; ComponentLink1URL: http://www.ti.com/; ComponentLink2Description: Datasheet; ComponentLink2URL: http://www.ti.com/lit/ds/symlink/sn74ahct1g04.pdf
footprint DCK0005A_N (SOT23, 5-Leads, Body 2.15x1.4mm, Pitch 0.65mm, IPC Medium Density)
footprint DCK0005A_M (SOT23, 5-Leads, Body 2.15x1.4mm, Pitch 0.65mm, IPC Low Density)
footprint DCK0005A_L (SOT23, 5-Leads, Body 2.15x1.4mm, Pitch 0.65mm, IPC High Density)
part A pins: 2 A (in) "Input A", 4 Y (out) "Output Y"
part B pins: 1 NC "Ground", 3 GND (power) "Ground Pin", 5 VCC (power) "Power Pin"

## SN74AHCT1G08DBVR
designator U?
Single 2-Input Positive-AND Gate, DBV0005A, LARGE T&R; Generic Part Number: SN74AHCT1G08; Manufacturer: Texas Instruments; PartNumber: SN74AHCT1G08DBVR; VCC(Min)(V): 2; VCC(Max)(V): 5.5; Output Type: CMOS; ICC @ Nom Voltage(Max)(mA): 0.01; Bits(#): 1; F @ Nom Voltage(Max)(Mhz): 75; Rating: Catalog; Technology Family: AHCT; Voltage(Nom)(V): 5; Schmitt Trigger: No; Output Drive (IOL/IOH)(Max)(mA): 8/-8; tpd @ Nom Voltage(Max)(ns): 7.1; Logic: True; Gate Type: AND; DatasheetVersion: SCLS315P; PackageReference: DBV0005A; Supplier 1: Mouser; Supplier Part Number 1: 595-SN74AHCT1G08DBVR; Supplier 2: Digi-Key; Supplier Part Number 2: 296-1113-2-ND; Supplier 3: Digi-Key; Supplier Part Number 3: 296-1113-1-ND; Supplier 4: Digi-Key; Supplier Part Number 4: 296-1113-6-ND; Input Type: CMOS; Operating Temperature Range(C): -40 to 125; Sub-Family: AND Gate; 3-State Output: No; ComponentLink1Description: Manufacturer URL; ComponentLink1URL: http://www.ti.com/; ComponentLink2Description: Datasheet; ComponentLink2URL: http://www.ti.com/lit/ds/symlink/sn74ahct1g08.pdf
footprint DBV0005A_N (SOT23, 5-Leads, Body 3.05x1.75mm, Pitch 0.95mm, IPC Medium Density)
footprint DBV0005A_M (SOT23, 5-Leads, Body 3.05x1.75mm, Pitch 0.95mm, IPC Low Density)
footprint DBV0005A_L (SOT23, 5-Leads, Body 3.05x1.75mm, Pitch 0.95mm, IPC High Density)
part A pins: 1 A (in) "Input A", 2 B (in) "Input B", 4 Y (out) "Output Y"
part B pins: 3 GND (power) "Ground Pin", 5 VCC (power) "Power Pin"

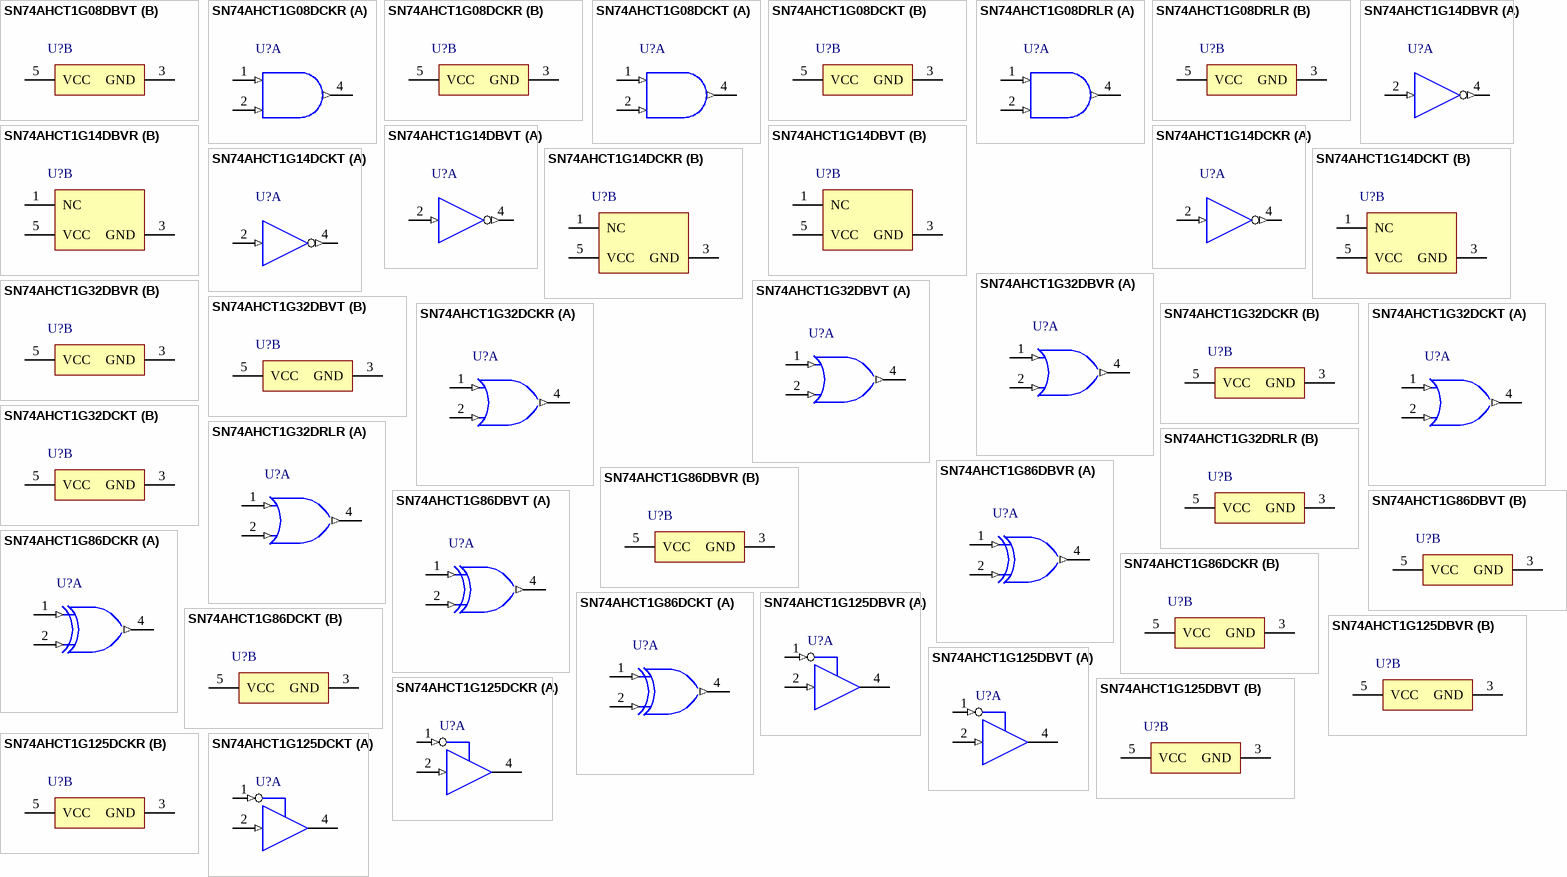
[diagram p6: symbols SN74AHCT1G08DBVT to SN74AHCT1G125DCKT]

## SN74AHCT1G08DBVT
designator U?
Single 2-Input Positive-AND Gate, DBV0005A, SMALL T&R; Generic Part Number: SN74AHCT1G08; Manufacturer: Texas Instruments; PartNumber: SN74AHCT1G08DBVT; VCC(Min)(V): 2; VCC(Max)(V): 5.5; Output Type: CMOS; ICC @ Nom Voltage(Max)(mA): 0.01; Bits(#): 1; F @ Nom Voltage(Max)(Mhz): 75; Rating: Catalog; Technology Family: AHCT; Voltage(Nom)(V): 5; Schmitt Trigger: No; Output Drive (IOL/IOH)(Max)(mA): 8/-8; tpd @ Nom Voltage(Max)(ns): 7.1; Logic: True; Gate Type: AND; DatasheetVersion: SCLS315P; PackageReference: DBV0005A; Supplier 1: Mouser; Supplier Part Number 1: 595-SN74AHCT1G08DBVT; Supplier 2: Digi-Key; Supplier Part Number 2: 296-32241-2-ND; Supplier 3: Digi-Key; Supplier Part Number 3: 296-32241-1-ND; Supplier 4: Digi-Key; Supplier Part Number 4: 296-32241-6-ND; Input Type: CMOS; Operating Temperature Range(C): -40 to 125; Sub-Family: AND Gate; 3-State Output: No; ComponentLink1Description: Manufacturer URL; ComponentLink1URL: http://www.ti.com/; ComponentLink2Description: Datasheet; ComponentLink2URL: http://www.ti.com/lit/ds/symlink/sn74ahct1g08.pdf
footprint DBV0005A_N (SOT23, 5-Leads, Body 3.05x1.75mm, Pitch 0.95mm, IPC Medium Density)
footprint DBV0005A_M (SOT23, 5-Leads, Body 3.05x1.75mm, Pitch 0.95mm, IPC Low Density)
footprint DBV0005A_L (SOT23, 5-Leads, Body 3.05x1.75mm, Pitch 0.95mm, IPC High Density)
part A pins: 1 A (in) "Input A", 2 B (in) "Input B", 4 Y (out) "Output Y"
part B pins: 3 GND (power) "Ground Pin", 5 VCC (power) "Power Pin"

## SN74AHCT1G08DCKR
designator U?
Single 2-Input Positive-AND Gate, DCK0005A, LARGE T&R; Generic Part Number: SN74AHCT1G08; Manufacturer: Texas Instruments; PartNumber: SN74AHCT1G08DCKR; VCC(Min)(V): 2; VCC(Max)(V): 5.5; Output Type: CMOS; ICC @ Nom Voltage(Max)(mA): 0.01; Bits(#): 1; F @ Nom Voltage(Max)(Mhz): 75; Rating: Catalog; Technology Family: AHCT; Voltage(Nom)(V): 5; Schmitt Trigger: No; Output Drive (IOL/IOH)(Max)(mA): 8/-8; tpd @ Nom Voltage(Max)(ns): 7.1; Logic: True; Gate Type: AND; DatasheetVersion: SCLS315P; PackageReference: DCK0005A; Supplier 1: Mouser; Supplier Part Number 1: 595-SN74AHCT1G08DCKR; Supplier 2: Digi-Key; Supplier Part Number 2: 296-4707-2-ND; Supplier 3: Digi-Key; Supplier Part Number 3: 296-4707-1-ND; Supplier 4: Digi-Key; Supplier Part Number 4: 296-4707-6-ND; Input Type: CMOS; Operating Temperature Range(C): -40 to 125; Sub-Family: AND Gate; 3-State Output: No; ComponentLink1Description: Manufacturer URL; ComponentLink1URL: http://www.ti.com/; ComponentLink2Description: Datasheet; ComponentLink2URL: http://www.ti.com/lit/ds/symlink/sn74ahct1g08.pdf
footprint DCK0005A_N (SOT23, 5-Leads, Body 2.15x1.4mm, Pitch 0.65mm, IPC Medium Density)
footprint DCK0005A_M (SOT23, 5-Leads, Body 2.15x1.4mm, Pitch 0.65mm, IPC Low Density)
footprint DCK0005A_L (SOT23, 5-Leads, Body 2.15x1.4mm, Pitch 0.65mm, IPC High Density)
part A pins: 1 A (in) "Input A", 2 B (in) "Input B", 4 Y (out) "Output Y"
part B pins: 3 GND (power) "Ground Pin", 5 VCC (power) "Power Pin"

## SN74AHCT1G08DCKT
designator U?
Single 2-Input Positive-AND Gate, DCK0005A, SMALL T&R; Generic Part Number: SN74AHCT1G08; Manufacturer: Texas Instruments; PartNumber: SN74AHCT1G08DCKT; VCC(Min)(V): 2; VCC(Max)(V): 5.5; Output Type: CMOS; ICC @ Nom Voltage(Max)(mA): 0.01; Bits(#): 1; F @ Nom Voltage(Max)(Mhz): 75; Rating: Catalog; Technology Family: AHCT; Voltage(Nom)(V): 5; Schmitt Trigger: No; Output Drive (IOL/IOH)(Max)(mA): 8/-8; tpd @ Nom Voltage(Max)(ns): 7.1; Logic: True; Gate Type: AND; DatasheetVersion: SCLS315P; PackageReference: DCK0005A; Supplier 1: Mouser; Supplier Part Number 1: 595-SN74AHCT1G08DCKT; Supplier 2: Digi-Key; Supplier Part Number 2: 296-32242-2-ND; Supplier 3: Digi-Key; Supplier Part Number 3: 296-32242-1-ND; Supplier 4: Digi-Key; Supplier Part Number 4: 296-32242-6-ND; Input Type: CMOS; Operating Temperature Range(C): -40 to 125; Sub-Family: AND Gate; 3-State Output: No; ComponentLink1Description: Manufacturer URL; ComponentLink1URL: http://www.ti.com/; ComponentLink2Description: Datasheet; ComponentLink2URL: http://www.ti.com/lit/ds/symlink/sn74ahct1g08.pdf
footprint DCK0005A_N (SOT23, 5-Leads, Body 2.15x1.4mm, Pitch 0.65mm, IPC Medium Density)
footprint DCK0005A_M (SOT23, 5-Leads, Body 2.15x1.4mm, Pitch 0.65mm, IPC Low Density)
footprint DCK0005A_L (SOT23, 5-Leads, Body 2.15x1.4mm, Pitch 0.65mm, IPC High Density)
part A pins: 1 A (in) "Input A", 2 B (in) "Input B", 4 Y (out) "Output Y"
part B pins: 3 GND (power) "Ground Pin", 5 VCC (power) "Power Pin"

## SN74AHCT1G08DRLR
designator U?
Single 2-Input Positive-AND Gate, DRL0005A, LARGE T&R; Generic Part Number: SN74AHCT1G08; Manufacturer: Texas Instruments; PartNumber: SN74AHCT1G08DRLR; VCC(Min)(V): 2; VCC(Max)(V): 5.5; Output Type: CMOS; ICC @ Nom Voltage(Max)(mA): 0.01; Bits(#): 1; F @ Nom Voltage(Max)(Mhz): 75; Rating: Catalog; Technology Family: AHCT; Voltage(Nom)(V): 5; Schmitt Trigger: No; Output Drive (IOL/IOH)(Max)(mA): 8/-8; tpd @ Nom Voltage(Max)(ns): 7.1; Logic: True; Gate Type: AND; DatasheetVersion: SCLS315P; PackageReference: DRL0005A; Supplier 1: Mouser; Supplier Part Number 1: 595-SN74AHCT1G08DRLR; Supplier 2: Digi-Key; Supplier Part Number 2: 296-19593-2-ND; Supplier 3: Digi-Key; Supplier Part Number 3: 296-19593-1-ND; Supplier 4: Digi-Key; Supplier Part Number 4: 296-19593-6-ND; Input Type: CMOS; Operating Temperature Range(C): -40 to 125; Sub-Family: AND Gate; 3-State Output: No; ComponentLink1Description: Manufacturer URL; ComponentLink1URL: http://www.ti.com/; ComponentLink2Description: Datasheet; ComponentLink2URL: http://www.ti.com/lit/ds/symlink/sn74ahct1g08.pdf
footprint DRL0005A_N (SOT23, 5-Leads, Body 1.7x1.3mm, Pitch 0.5mm, IPC Medium Density)
footprint DRL0005A_M (SOT23, 5-Leads, Body 1.7x1.3mm, Pitch 0.5mm, IPC Low Density)
footprint DRL0005A_L (SOT23, 5-Leads, Body 1.7x1.3mm, Pitch 0.5mm, IPC High Density)
part A pins: 1 A (in) "Input A", 2 B (in) "Input B", 4 Y (out) "Output Y"
part B pins: 3 GND (power) "Ground Pin", 5 VCC (power) "Power Pin"

## SN74AHCT1G14DBVR
designator U?
Single Schmitt-Trigger Inverter Gate, DBV0005A, LARGE T&R; Generic Part Number: SN74AHCT1G14; Manufacturer: Texas Instruments; PartNumber: SN74AHCT1G14DBVR; VCC(Min)(V): 2; VCC(Max)(V): 5.5; Output Type: CMOS; ICC @ Nom Voltage(Max)(mA): 0.01; Bits(#): 1; F @ Nom Voltage(Max)(Mhz): 75; Rating: Catalog; Technology Family: AHCT; Voltage(Nom)(V): 5; Schmitt Trigger: Yes; Output Drive (IOL/IOH)(Max)(mA): 8/-8; tpd @ Nom Voltage(Max)(ns): 8; Logic: Inverting; Sub-Family: Inverting Buffer/Driver; 3-State Output: No; DatasheetVersion: SCLS322P; PackageReference: DBV0005A; Supplier 1: Mouser; Supplier Part Number 1: 595-SN74AHCT1G14DBVR; Supplier 2: Digi-Key; Supplier Part Number 2: 296-1114-2-ND; Supplier 3: Digi-Key; Supplier Part Number 3: 296-1114-1-ND; Supplier 4: Digi-Key; Supplier Part Number 4: 296-1114-6-ND; Input Type: CMOS; Operating Temperature Range(C): -40 to 125; ComponentLink1Description: Manufacturer URL; ComponentLink1URL: http://www.ti.com/; ComponentLink2Description: Datasheet; ComponentLink2URL: http://www.ti.com/lit/ds/symlink/sn74ahct1g14.pdf
footprint DBV0005A_N (SOT23, 5-Leads, Body 3.05x1.75mm, Pitch 0.95mm, IPC Medium Density)
footprint DBV0005A_M (SOT23, 5-Leads, Body 3.05x1.75mm, Pitch 0.95mm, IPC Low Density)
footprint DBV0005A_L (SOT23, 5-Leads, Body 3.05x1.75mm, Pitch 0.95mm, IPC High Density)
part A pins: 2 A (in) "Input A", 4 Y (out) "Output Y"
part B pins: 1 NC "Ground", 3 GND (power) "Ground Pin", 5 VCC (power) "Power Pin"

## SN74AHCT1G14DBVT
designator U?
Single Schmitt-Trigger Inverter Gate, DBV0005A, SMALL T&R; Generic Part Number: SN74AHCT1G14; Manufacturer: Texas Instruments; PartNumber: SN74AHCT1G14DBVT; VCC(Min)(V): 2; VCC(Max)(V): 5.5; Output Type: CMOS; ICC @ Nom Voltage(Max)(mA): 0.01; Bits(#): 1; F @ Nom Voltage(Max)(Mhz): 75; Rating: Catalog; Technology Family: AHCT; Voltage(Nom)(V): 5; Schmitt Trigger: Yes; Output Drive (IOL/IOH)(Max)(mA): 8/-8; tpd @ Nom Voltage(Max)(ns): 8; Logic: Inverting; Sub-Family: Inverting Buffer/Driver; 3-State Output: No; DatasheetVersion: SCLS322P; PackageReference: DBV0005A; Supplier 1: Mouser; Supplier Part Number 1: 595-SN74AHCT1G14DBVT; Supplier 2: Digi-Key; Supplier Part Number 2: 296-32247-2-ND; Supplier 3: Digi-Key; Supplier Part Number 3: 296-32247-1-ND; Supplier 4: Digi-Key; Supplier Part Number 4: 296-32247-6-ND; Input Type: CMOS; Operating Temperature Range(C): -40 to 125; ComponentLink1Description: Manufacturer URL; ComponentLink1URL: http://www.ti.com/; ComponentLink2Description: Datasheet; ComponentLink2URL: http://www.ti.com/lit/ds/symlink/sn74ahct1g14.pdf
footprint DBV0005A_N (SOT23, 5-Leads, Body 3.05x1.75mm, Pitch 0.95mm, IPC Medium Density)
footprint DBV0005A_M (SOT23, 5-Leads, Body 3.05x1.75mm, Pitch 0.95mm, IPC Low Density)
footprint DBV0005A_L (SOT23, 5-Leads, Body 3.05x1.75mm, Pitch 0.95mm, IPC High Density)
part A pins: 2 A (in) "Input A", 4 Y (out) "Output Y"
part B pins: 1 NC "Ground", 3 GND (power) "Ground Pin", 5 VCC (power) "Power Pin"

## SN74AHCT1G14DCKR
designator U?
Single Schmitt-Trigger Inverter Gate, DCK0005A, LARGE T&R; Generic Part Number: SN74AHCT1G14; Manufacturer: Texas Instruments; PartNumber: SN74AHCT1G14DCKR; VCC(Min)(V): 2; VCC(Max)(V): 5.5; Output Type: CMOS; ICC @ Nom Voltage(Max)(mA): 0.01; Bits(#): 1; F @ Nom Voltage(Max)(Mhz): 75; Rating: Catalog; Technology Family: AHCT; Voltage(Nom)(V): 5; Schmitt Trigger: Yes; Output Drive (IOL/IOH)(Max)(mA): 8/-8; tpd @ Nom Voltage(Max)(ns): 8; Logic: Inverting; Sub-Family: Inverting Buffer/Driver; 3-State Output: No; DatasheetVersion: SCLS322P; PackageReference: DCK0005A; Supplier 1: Mouser; Supplier Part Number 1: 595-SN74AHCT1G14DCKR; Supplier 2: Digi-Key; Supplier Part Number 2: 296-4712-2-ND; Supplier 3: Digi-Key; Supplier Part Number 3: 296-4712-1-ND; Supplier 4: Digi-Key; Supplier Part Number 4: 296-4712-6-ND; Input Type: CMOS; Operating Temperature Range(C): -40 to 125; ComponentLink1Description: Manufacturer URL; ComponentLink1URL: http://www.ti.com/; ComponentLink2Description: Datasheet; ComponentLink2URL: http://www.ti.com/lit/ds/symlink/sn74ahct1g14.pdf
footprint DCK0005A_N (SOT23, 5-Leads, Body 2.15x1.4mm, Pitch 0.65mm, IPC Medium Density)
footprint DCK0005A_M (SOT23, 5-Leads, Body 2.15x1.4mm, Pitch 0.65mm, IPC Low Density)
footprint DCK0005A_L (SOT23, 5-Leads, Body 2.15x1.4mm, Pitch 0.65mm, IPC High Density)
part A pins: 2 A (in) "Input A", 4 Y (out) "Output Y"
part B pins: 1 NC "Ground", 3 GND (power) "Ground Pin", 5 VCC (power) "Power Pin"

## SN74AHCT1G14DCKT
designator U?
Single Schmitt-Trigger Inverter Gate, DCK0005A, SMALL T&R; Generic Part Number: SN74AHCT1G14; Manufacturer: Texas Instruments; PartNumber: SN74AHCT1G14DCKT; VCC(Min)(V): 2; VCC(Max)(V): 5.5; Output Type: CMOS; ICC @ Nom Voltage(Max)(mA): 0.01; Bits(#): 1; F @ Nom Voltage(Max)(Mhz): 75; Rating: Catalog; Technology Family: AHCT; Voltage(Nom)(V): 5; Schmitt Trigger: Yes; Output Drive (IOL/IOH)(Max)(mA): 8/-8; tpd @ Nom Voltage(Max)(ns): 8; Logic: Inverting; Sub-Family: Inverting Buffer/Driver; 3-State Output: No; DatasheetVersion: SCLS322P; PackageReference: DCK0005A; Supplier 1: Mouser; Supplier Part Number 1: 595-SN74AHCT1G14DCKT; Supplier 2: Digi-Key; Supplier Part Number 2: 296-32248-2-ND; Supplier 3: Digi-Key; Supplier Part Number 3: 296-32248-1-ND; Supplier 4: Digi-Key; Supplier Part Number 4: 296-32248-6-ND; Input Type: CMOS; Operating Temperature Range(C): -40 to 125; ComponentLink1Description: Manufacturer URL; ComponentLink1URL: http://www.ti.com/; ComponentLink2Description: Datasheet; ComponentLink2URL: http://www.ti.com/lit/ds/symlink/sn74ahct1g14.pdf
footprint DCK0005A_N (SOT23, 5-Leads, Body 2.15x1.4mm, Pitch 0.65mm, IPC Medium Density)
footprint DCK0005A_M (SOT23, 5-Leads, Body 2.15x1.4mm, Pitch 0.65mm, IPC Low Density)
footprint DCK0005A_L (SOT23, 5-Leads, Body 2.15x1.4mm, Pitch 0.65mm, IPC High Density)
part A pins: 2 A (in) "Input A", 4 Y (out) "Output Y"
part B pins: 1 NC "Ground", 3 GND (power) "Ground Pin", 5 VCC (power) "Power Pin"

## SN74AHCT1G32DBVR
designator U?
Single 2-Input Positive-OR Gate, DBV0005A, LARGE T&R; Generic Part Number: SN74AHCT1G32; Manufacturer: Texas Instruments; PartNumber: SN74AHCT1G32DBVR; VCC(Min)(V): 2; VCC(Max)(V): 5.5; Output Type: CMOS; ICC @ Nom Voltage(Max)(mA): 0.01; Bits(#): 1; F @ Nom Voltage(Max)(Mhz): 75; Rating: Catalog; Technology Family: AHCT; Voltage(Nom)(V): 5; Schmitt Trigger: No; Output Drive (IOL/IOH)(Max)(mA): 8/-8; tpd @ Nom Voltage(Max)(ns): 8; Logic: True; Gate Type: OR; Sub-Family: OR Gate; DatasheetVersion: SCLS320O; PackageReference: DBV0005A; Supplier 1: Mouser; Supplier Part Number 1: 595-SN74AHCT1G32DBVR; Supplier 2: Digi-Key; Supplier Part Number 2: 296-1115-2-ND; Supplier 3: Digi-Key; Supplier Part Number 3: 296-1115-1-ND; Supplier 4: Digi-Key; Supplier Part Number 4: 296-1115-6-ND; Input Type: CMOS; Operating Temperature Range(C): -40 to 125; 3-State Output: No; ComponentLink1Description: Manufacturer URL; ComponentLink1URL: http://www.ti.com/; ComponentLink2Description: Datasheet; ComponentLink2URL: http://www.ti.com/lit/ds/symlink/sn74ahct1g32.pdf
footprint DBV0005A_N (SOT23, 5-Leads, Body 3.05x1.75mm, Pitch 0.95mm, IPC Medium Density)
footprint DBV0005A_M (SOT23, 5-Leads, Body 3.05x1.75mm, Pitch 0.95mm, IPC Low Density)
footprint DBV0005A_L (SOT23, 5-Leads, Body 3.05x1.75mm, Pitch 0.95mm, IPC High Density)
part A pins: 1 A (in) "Input A", 2 B (in) "Input B", 4 Y (out) "Output Y"
part B pins: 3 GND (power) "Ground Pin", 5 VCC (power) "Power Pin"

## SN74AHCT1G32DBVT
designator U?
Single 2-Input Positive-OR Gate, DBV0005A, SMALL T&R; Generic Part Number: SN74AHCT1G32; Manufacturer: Texas Instruments; PartNumber: SN74AHCT1G32DBVT; VCC(Min)(V): 2; VCC(Max)(V): 5.5; Output Type: CMOS; ICC @ Nom Voltage(Max)(mA): 0.01; Bits(#): 1; F @ Nom Voltage(Max)(Mhz): 75; Rating: Catalog; Technology Family: AHCT; Voltage(Nom)(V): 5; Schmitt Trigger: No; Output Drive (IOL/IOH)(Max)(mA): 8/-8; tpd @ Nom Voltage(Max)(ns): 8; Logic: True; Gate Type: OR; Sub-Family: OR Gate; DatasheetVersion: SCLS320O; PackageReference: DBV0005A; Supplier 1: Mouser; Supplier Part Number 1: 595-SN74AHCT1G32DBVT; Supplier 2: Digi-Key; Supplier Part Number 2: 296-32249-2-ND; Supplier 3: Digi-Key; Supplier Part Number 3: 296-32249-1-ND; Supplier 4: Digi-Key; Supplier Part Number 4: 296-32249-6-ND; Input Type: CMOS; Operating Temperature Range(C): -40 to 125; 3-State Output: No; ComponentLink1Description: Manufacturer URL; ComponentLink1URL: http://www.ti.com/; ComponentLink2Description: Datasheet; ComponentLink2URL: http://www.ti.com/lit/ds/symlink/sn74ahct1g32.pdf
footprint DBV0005A_N (SOT23, 5-Leads, Body 3.05x1.75mm, Pitch 0.95mm, IPC Medium Density)
footprint DBV0005A_M (SOT23, 5-Leads, Body 3.05x1.75mm, Pitch 0.95mm, IPC Low Density)
footprint DBV0005A_L (SOT23, 5-Leads, Body 3.05x1.75mm, Pitch 0.95mm, IPC High Density)
part A pins: 1 A (in) "Input A", 2 B (in) "Input B", 4 Y (out) "Output Y"
part B pins: 3 GND (power) "Ground Pin", 5 VCC (power) "Power Pin"